# Altium footprint library Header.PcbLib: 4 footprints
Each footprint in its own frame and in the unit in brackets; x right, y up, seen from the top. Pads: shape width x height; smd on the part's side, far side on the other; paste and mask are expansions set on the pad; w line width, h text height; cw(c..) or ccw(c..) is an arc to the next point about the centre after c.
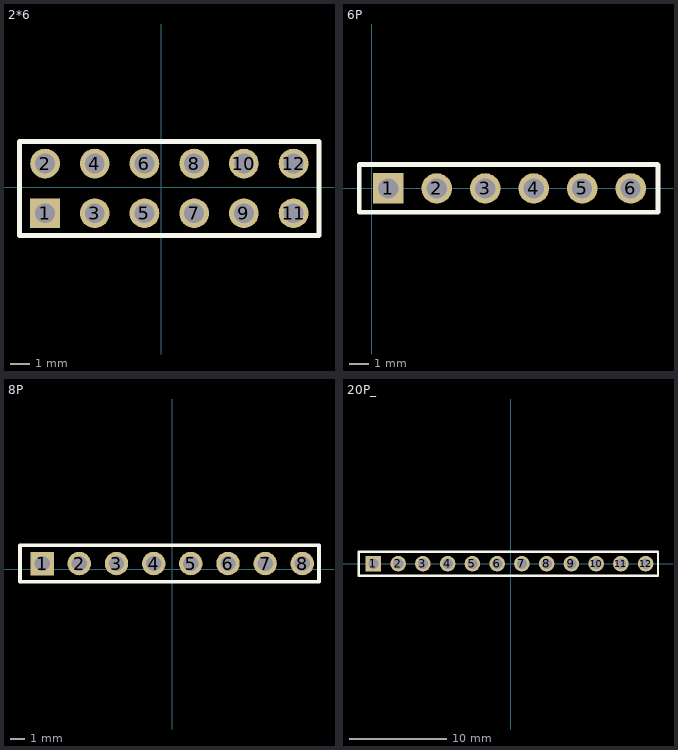
[diagram p0: the footprints below, top view; thin cyan lines are the x and y axes]

## 2*6 [mm]
pads (12):
  rect 1.52x1.52 hole 1.02 paste-2539.97 mask+0.05: 1(-5.933,-1.327)
  round 1.52 hole 1.02 paste-2539.97 mask+0.05: 2(-5.933,1.213) 3(-3.393,-1.327) 4(-3.393,1.213) 5(-0.853,-1.327) 6(-0.853,1.213) 7(1.687,-1.327) 8(1.687,1.213) 9(4.227,-1.327) 10(4.227,1.213) 11(6.767,-1.327) 12(6.767,1.213)
Top Overlay:
  lines w0.254: -7.233,-2.457 -7.233,2.343 8.067,2.343 8.067,-2.457 -7.233,-2.457
Mechanical 15:
  region: -7.143,-2.472 -7.143,-2.447 -7.178,-2.412 -7.228,-2.412 -7.263,-2.447 -7.263,-2.472 -7.263,-2.497 -7.228,-2.532 -7.178,-2.532 -7.143,-2.497
  region: -6.243,-1.017 -5.623,-1.017 -5.623,-1.637 -6.243,-1.637
  region: -6.243,1.523 -5.623,1.523 -5.623,0.903 -6.243,0.903
  region: -3.703,-1.017 -3.083,-1.017 -3.083,-1.637 -3.703,-1.637
  region: -3.703,1.523 -3.083,1.523 -3.083,0.903 -3.703,0.903
  region: -1.163,-1.017 -0.543,-1.017 -0.543,-1.637 -1.163,-1.637
  region: -1.163,1.523 -0.543,1.523 -0.543,0.903 -1.163,0.903
  region: 1.377,-1.017 1.997,-1.017 1.997,-1.637 1.377,-1.637
  region: 1.377,1.523 1.997,1.523 1.997,0.903 1.377,0.903
  region: 3.917,-1.017 4.537,-1.017 4.537,-1.637 3.917,-1.637
  region: 3.917,1.523 4.537,1.523 4.537,0.903 3.917,0.903
  region: 6.457,-1.017 7.077,-1.017 7.077,-1.637 6.457,-1.637
  region: 6.457,1.523 7.077,1.523 7.077,0.903 6.457,0.903
  lines w0.051: -7.203,-2.472 -7.203,2.358 8.037,2.358 8.037,-2.472 -7.203,-2.472
3D body "1x6 Male Pin Header Angle.STEP": height 10.54, standoff -1.82, extent -7.203,-0.037 8.042,5.463
3D body "1x6 Male Pin Header Angle.STEP": height 10.54, standoff -1.82, extent -7.123,-5.5 8.123,0

## 6P [mm]
pads (6):
  rect 1.6x1.6 hole 1.05: 1(0.871,0)
  round 1.6 hole 1.05: 2(3.411,0) 3(5.951,0) 4(8.491,0) 5(11.031,0) 6(13.571,0)
Top Overlay:
  lines w0.254: -0.649,-1.25 15,-1.25 15,1.219 14.969,1.25 -0.649,1.25 -0.649,-1.25
Mechanical 15:
  region: -0.593,-1.27 -0.593,-1.245 -0.628,-1.21 -0.678,-1.21 -0.713,-1.245 -0.713,-1.27 -0.713,-1.295 -0.678,-1.33 -0.628,-1.33 -0.593,-1.295 -0.593,-1.27
  lines w0.051: -0.653,-1.27 -0.653,1.27
3D body "PinHeader_1x06_P2.54mm_Horizontal_SMD_Right.step": height 8.61, standoff -2.89, extent -0.383,-1.31 14.817,1.19

## 8P [mm]
pads (8):
  rect 1.6x1.6 hole 1.05: 1(-8.89,0.381)
  round 1.6 hole 1.05: 2(-6.35,0.381) 3(-3.81,0.381) 4(-1.27,0.381) 5(1.27,0.381) 6(3.81,0.381) 7(6.35,0.381) 8(8.89,0.381)
Top Overlay:
  lines w0.254: -10.41,-0.869 10.033,-0.869 10.033,0.01 10.033,1.631 -10.41,1.631 -10.41,-0.869
Mechanical 15:
  region: -10.354,-0.889 -10.354,-0.864 -10.389,-0.829 -10.439,-0.829 -10.474,-0.864 -10.474,-0.889 -10.474,-0.914 -10.439,-0.949 -10.389,-0.949 -10.354,-0.914 -10.354,-0.889
  lines w0.051: -10.414,-0.889 -10.414,1.651
3D body "PinHeader_1x08_P2.54mm_Horizontal_SMD_Right.step": height 8.6, standoff -2.9, extent -10.267,-0.889 10.013,1.611

## 20P_ [mm]
pads (12):
  rect 1.6x1.6 hole 1.05: 1(-14.097,0)
  round 1.6 hole 1.05: 2(-11.557,0) 3(-9.017,0) 4(-6.477,0) 5(-3.937,0) 6(-1.397,0) 7(1.143,0) 8(3.683,0) 9(6.223,0) 10(8.763,0) 11(11.303,0) 12(13.843,0)
Top Overlay:
  lines w0.254: -15.617,-1.25 -15.617,1.25 14.859,1.25 15.113,1.25 15.113,-0.371 15.113,-1.25 -15.617,-1.25
Mechanical 15:
  region: -14.417,0.32 -13.777,0.32 -13.777,-0.32 -14.417,-0.32
  region: -11.877,0.32 -11.237,0.32 -11.237,-0.32 -11.877,-0.32
  region: -9.337,0.32 -8.697,0.32 -8.697,-0.32 -9.337,-0.32
  region: -6.797,0.32 -6.157,0.32 -6.157,-0.32 -6.797,-0.32
  region: -4.257,0.32 -3.617,0.32 -3.617,-0.32 -4.257,-0.32
  region: -1.717,0.32 -1.077,0.32 -1.077,-0.32 -1.717,-0.32
  region: 0.823,0.32 1.463,0.32 1.463,-0.32 0.823,-0.32
  region: 3.363,0.32 4.003,0.32 4.003,-0.32 3.363,-0.32
  region: 5.903,0.32 6.543,0.32 6.543,-0.32 5.903,-0.32
  region: 8.443,0.32 9.083,0.32 9.083,-0.32 8.443,-0.32
  region: 10.983,0.32 11.623,0.32 11.623,-0.32 10.983,-0.32
  region: 13.523,0.32 14.163,0.32 14.163,-0.32 13.523,-0.32
  region: -15.561,-1.27 -15.561,-1.245 -15.596,-1.21 -15.646,-1.21 -15.681,-1.245 -15.681,-1.27 -15.681,-1.295 -15.646,-1.33 -15.596,-1.33 -15.561,-1.295 -15.561,-1.27
  lines w0.051: -15.621,-1.27 -15.621,1.27
3D body "PinHeader_1x12_P2.54mm_Horizontal_SMD_Right.step": height 8.61, standoff -2.89, extent -15.708,-1.27 14.732,1.23